# EAGLE library part STM32L0X3RL (library watchplb)
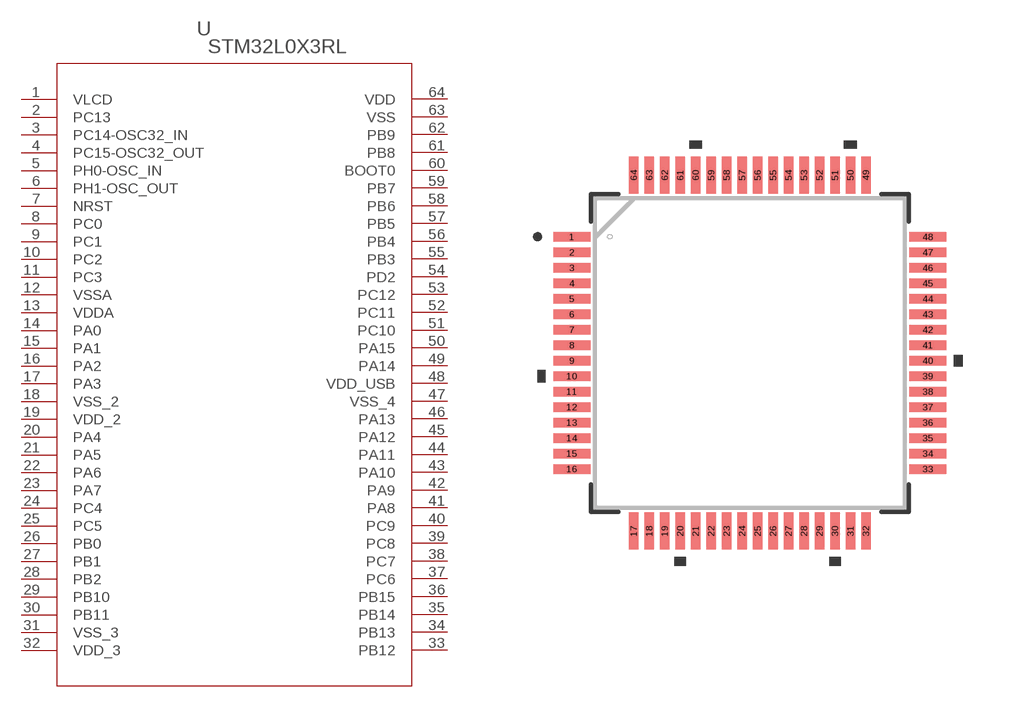
[diagram p8: symbol with the pads of LQFP64-10X10MM; footprint LQFP64-10X10MM]

Designator prefix U

## STM32L0X3RL (MANUFACTURER_PART_NUMBER: stm32l0x3rl; VENDOR: STMicroelectronics)  [LQFP64-10X10MM]
1  VLCD  pwr
2  PC13
3  PC14-OSC32_IN
4  PC15-OSC32_OUT
5  PH0-OSC_IN
6  PH1-OSC_OUT
7  NRST
8  PC0
9  PC1
10  PC2
11  PC3
12  VSSA  pwr
13  VDDA  pwr
14  PA0
15  PA1
16  PA2
17  PA3
18  VSS_2  pwr
19  VDD_2  pwr
20  PA4
21  PA5
22  PA6
23  PA7
24  PC4
25  PC5
26  PB0
27  PB1
28  PB2
29  PB10
30  PB11
31  VSS_3  pwr
32  VDD_3  pwr
33  PB12
34  PB13
35  PB14
36  PB15
37  PC6
38  PC7
39  PC8
40  PC9
41  PA8
42  PA9
43  PA10
44  PA11
45  PA12
46  PA13
47  VSS_4  pwr
48  VDD_USB  pwr
49  PA14
50  PA15
51  PC10
52  PC11
53  PC12
54  PD2
55  PB3
56  PB4
57  PB5
58  PB6
59  PB7
60  BOOT0  in
61  PB8
62  PB9
63  VSS  pwr
64  VDD  pwr

## Footprint LQFP64-10X10MM (pad centres in mm)
smd 1.194 x 0.305: 1 -5.75,3.75; 2 -5.75,3.25; 3 -5.75,2.75; 4 -5.75,2.25; 5 -5.75,1.75; 6 -5.75,1.25; 7 -5.75,0.75; 8 -5.75,0.25; 9 -5.75,-0.25; 10 -5.75,-0.75; 11 -5.75,-1.25; 12 -5.75,-1.75; 13 -5.75,-2.25; 14 -5.75,-2.75; 15 -5.75,-3.25; 16 -5.75,-3.75; 33 5.75,-3.75; 34 5.75,-3.25; 35 5.75,-2.75; 36 5.75,-2.25; 37 5.75,-1.75; 38 5.75,-1.25; 39 5.75,-0.75; 40 5.75,-0.25; 41 5.75,0.25; 42 5.75,0.75; 43 5.75,1.25; 44 5.75,1.75; 45 5.75,2.25; 46 5.75,2.75; 47 5.75,3.25; 48 5.75,3.75
smd 0.305 x 1.194: 17 -3.75,-5.75; 18 -3.25,-5.75; 19 -2.75,-5.75; 20 -2.25,-5.75; 21 -1.75,-5.75; 22 -1.25,-5.75; 23 -0.75,-5.75; 24 -0.25,-5.75; 25 0.25,-5.75; 26 0.75,-5.75; 27 1.25,-5.75; 28 1.75,-5.75; 29 2.25,-5.75; 30 2.75,-5.75; 31 3.25,-5.75; 32 3.75,-5.75; 49 3.75,5.75; 50 3.25,5.75; 51 2.75,5.75; 52 2.25,5.75; 53 1.75,5.75; 54 1.25,5.75; 55 0.75,5.75; 56 0.25,5.75; 57 -0.25,5.75; 58 -0.75,5.75; 59 -1.25,5.75; 60 -1.75,5.75; 61 -2.25,5.75; 62 -2.75,5.75; 63 -3.25,5.75; 64 -3.75,5.75